# Altium footprint library RE_AXIAL_160x55P200.PcbLib: 1 footprints
Each footprint in its own frame and in the unit in brackets; x right, y up, seen from the top. Pads: shape width x height; smd on the part's side, far side on the other; paste and mask are expansions set on the pad; w line width, h text height; cw(c..) or ccw(c..) is an arc to the next point about the centre after c.
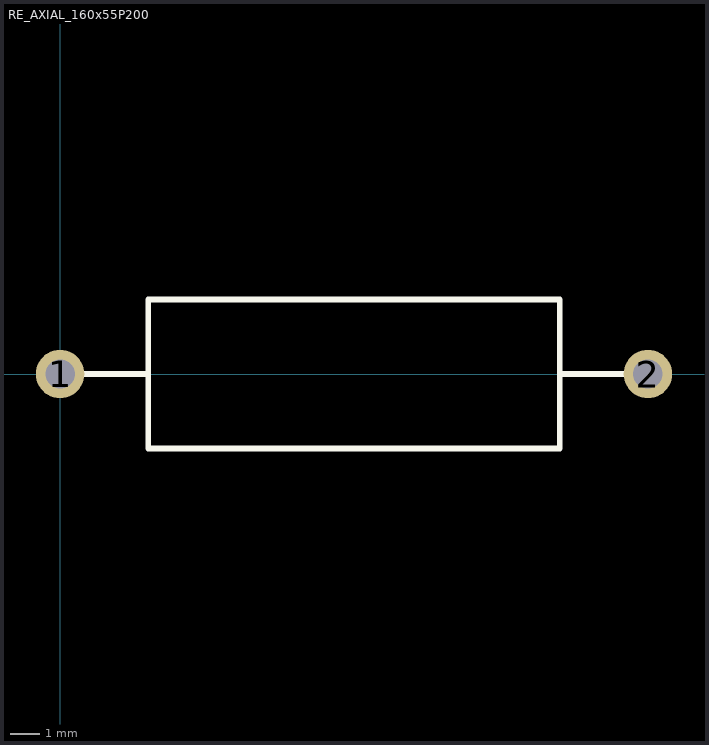
[diagram p0: the footprint, top view; thin cyan lines are the x and y axes]

## RE_AXIAL_160x55P200 [mm] "2W Carbon resistor"
height 5
pads (2):
  round 1.65 hole 1: 1(0,0) 2(20,0)
Top Overlay:
  lines w0.2: 0,0 3,0 ; 17,0 20,0 ; 3,-2.54 3,2.54 17,2.54 17,-2.54 3,-2.54
3D body: height 4.91, standoff -2.29, extent -0.4,-2.5 20.4,2.5